# Altium schematic symbol library PDB.SchLib: 5 symbols
Pins are listed as number, name and electrical type; pins without a type are passive.

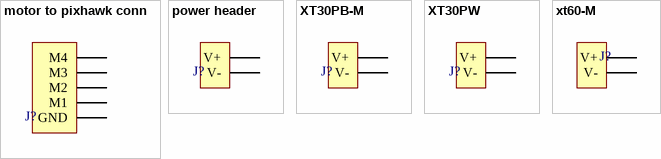
[diagram p0: symbols motor to pixhawk conn to xt60-M]

## motor to pixhawk conn
designator J?  (value not drawn)
footprint motor to pixhawk headers
pins: 0 GND, 1 M1, 2 M2, 3 M3, 4 M4

## power header
designator J?  (value not drawn)
footprint power header
pins: 0 V-, 1 V+

## XT30PB-M
designator J?  (value not drawn)
ComponentLink1Description: Supplier; ComponentLink1URL: http://shop.smc-powers.com/XT30UPB-M.html?manufacturer_id=13&page=4
footprint XT30PB-M
pins: 0 V-, 1 V+

## XT30PW
designator J?  (value not drawn)
ComponentLink1Description: Supplier; ComponentLink1URL: https://www.tme.com/us/en-us/details/xt30pw-m/dc-power-connectors/amass/
footprint XT30PW
pins: 0 V-, 1 V+

## xt60-M
designator J?  (value not drawn)
footprint xt60-m
pins: 1 V-, 2 V+